# Altium integrated library VS-10BQ100-M3.IntLib: 1 symbol
Pins are listed as number, name and electrical type; pins without a type are passive.

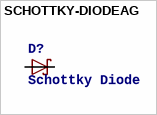
[diagram p0: symbol SCHOTTKY-DIODEAG]

## SCHOTTKY-DIODEAG
designator D?, comment Schottky Diode
footprint DO214AA
pins: A, C